# Altium footprint library P6母板4.1.PcbLib: 25 footprints (part 1 of 2)
Each footprint in its own frame and in the unit in brackets; x right, y up, seen from the top. Pads: shape width x height; smd on the part's side, far side on the other; paste and mask are expansions set on the pad; w line width, h text height; cw(c..) or ccw(c..) is an arc to the next point about the centre after c.
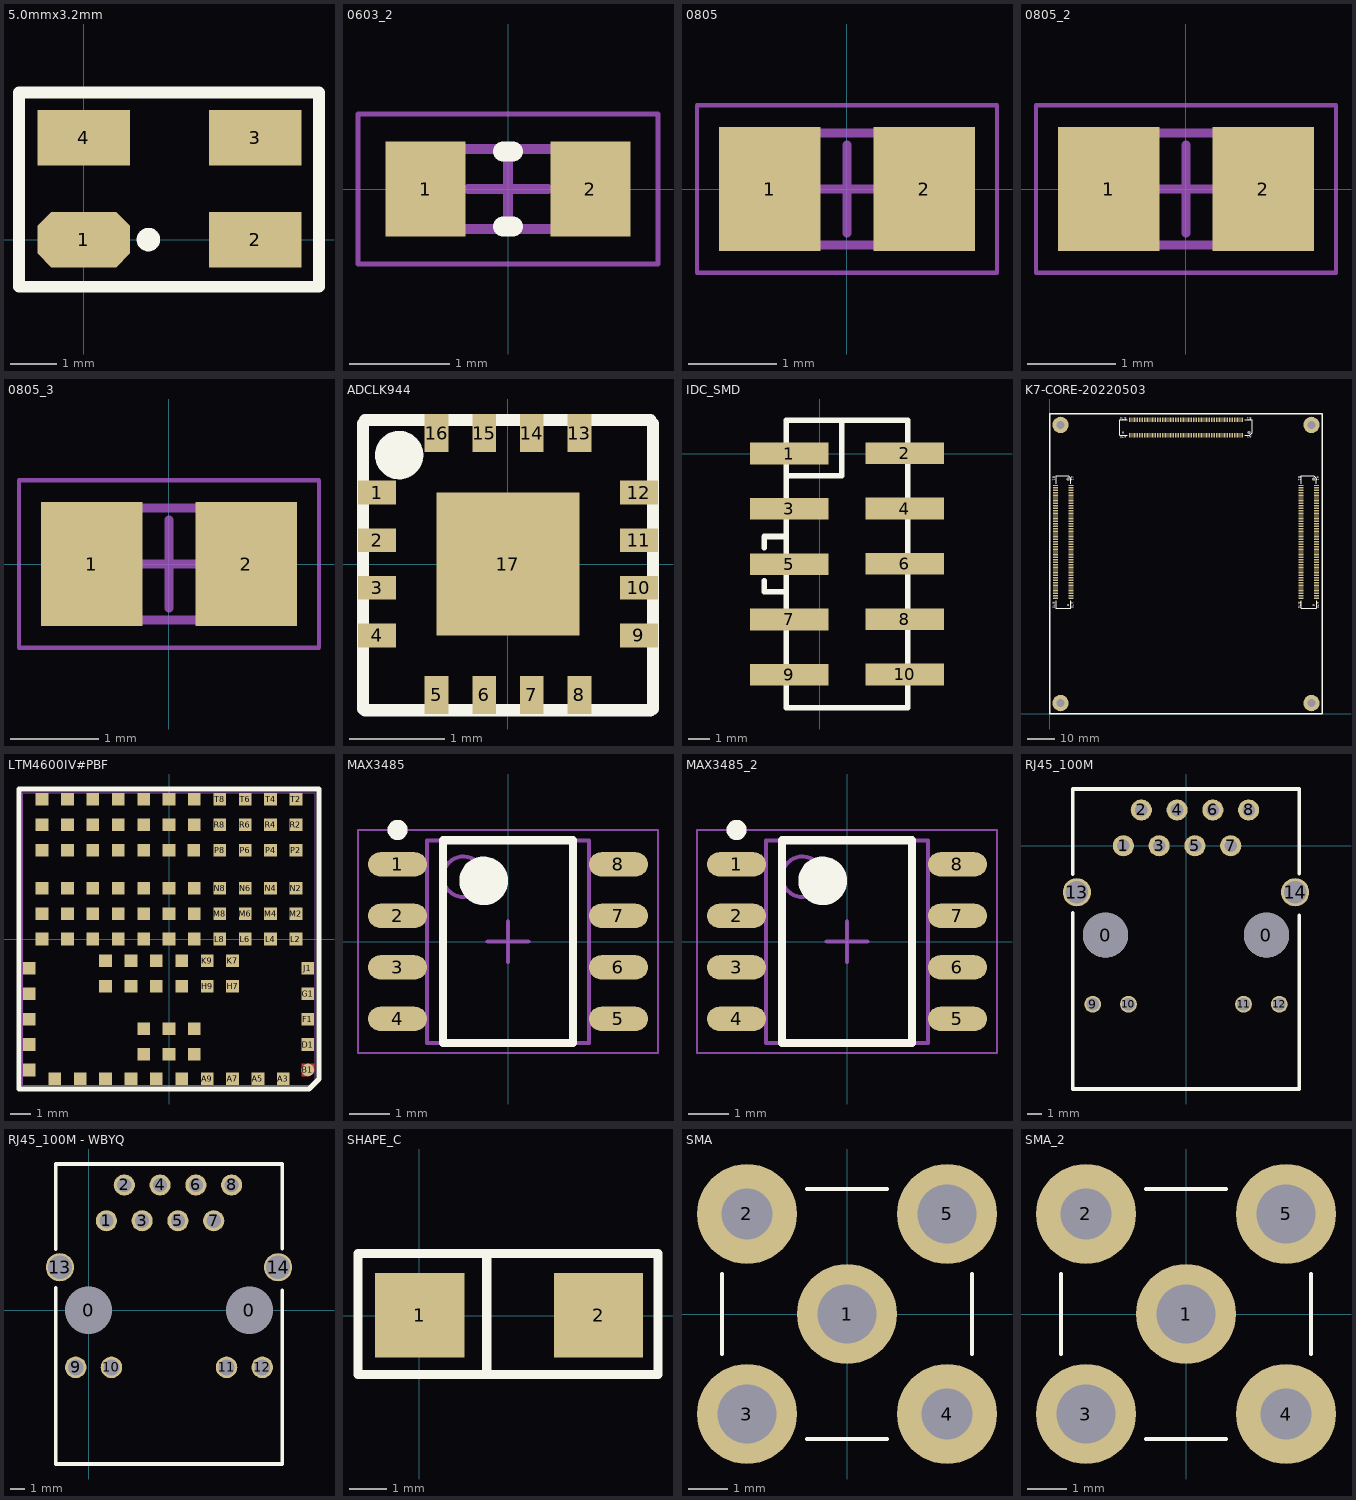
[diagram p0: the footprints below, top view; thin cyan lines are the x and y axes]

## 5.0mmx3.2mm [mm]
pads (4):
  oct 2x1.2 smd: 1(0,0)
  rect 2x1.2 smd: 2(3.7,0) 3(3.7,2.2) 4(0,2.2)
Top Overlay:
  circle w0.254: c1.397,0 r0.127
  lines w0.254: -1.397,-1.016 5.08,-1.016 5.08,3.175 -1.397,3.175 -1.397,-1.016

## 0603_2 [mm]
pads (2):
  rect 0.8x0.95 smd: 1(-0.825,0) 2(0.825,0)
Top Overlay:
  lines w0.2: -0.05,-0.375 0.05,-0.375 ; -0.05,0.375 0.05,0.375
Mechanical 13:
  lines w0.1: -0.8,-0.4 0.8,-0.4 0.8,0.4 -0.8,0.4 -0.8,-0.4
Mechanical 15:
  lines w0.05: -1.5,-0.75 1.5,-0.75 1.5,0.75 -1.5,0.75 -1.5,-0.75
  lines w0.1: -0.4,0 0.4,0 ; 0,-0.4 0,0.4
3D body: height 0.5, standoff 0, extent 0.5,-0.4 0.8,0.4
3D body: height 0.5, standoff 0, extent -0.8,-0.4 -0.5,0.4
3D body: height 0.5, standoff 0, extent -0.5,-0.4 0.5,0.4

## 0805 [mm] "Chip Capacitor, 2-Leads, Body 2.00x1.27mm, IPC Medium Density"
height 1.25
pads (2):
  rect 1.15x1.4 smd: 1(-0.875,0) 2(0.875,0)
Mechanical 13:
  lines w0.1: -1,-0.635 -1,0.635 1,0.635 1,-0.635 -1,-0.635
Mechanical 15:
  lines w0.05: -1.7,-0.95 -1.7,0.95 1.7,0.95 1.7,-0.95 -1.7,-0.95
  lines w0.1: -0.5,0 0.5,0 ; 0,-0.5 0,0.5
3D body: height 1.25, standoff 0, extent -0.55,-0.635 0.55,0.635
3D body: height 1.25, standoff 0, extent -1,-0.635 -0.55,0.635
3D body: height 1.25, standoff 0, extent 0.55,-0.635 1,0.635

## 0805_2 [mm]
pads (2):
  rect 1.15x1.4 smd: 1(-0.875,0) 2(0.875,0)
Mechanical 13:
  lines w0.1: -1,-0.635 1,-0.635 1,0.635 -1,0.635 -1,-0.635
Mechanical 15:
  lines w0.05: -1.7,-0.95 1.7,-0.95 1.7,0.95 -1.7,0.95 -1.7,-0.95
  lines w0.1: -0.5,0 0.5,0 ; 0,-0.5 0,0.5
3D body: height 1.25, standoff 0, extent 0.55,-0.635 1,0.635
3D body: height 1.25, standoff 0, extent -1,-0.635 -0.55,0.635
3D body: height 1.25, standoff 0, extent -0.55,-0.635 0.55,0.635

## 0805_3 [mm]
pads (2):
  rect 1.15x1.4 smd: 1(-0.875,0) 2(0.875,0)
Mechanical 13:
  lines w0.1: -1,-0.635 -1,0.635 1,0.635 1,-0.635 -1,-0.635
Mechanical 15:
  lines w0.05: -1.7,-0.95 -1.7,0.95 1.7,0.95 1.7,-0.95 -1.7,-0.95
  lines w0.1: -0.5,0 0.5,0 ; 0,-0.5 0,0.5
3D body: height 1.25, standoff 0, extent -0.55,-0.635 0.55,0.635
3D body: height 1.25, standoff 0, extent -1,-0.635 -0.55,0.635
3D body: height 1.25, standoff 0, extent 0.55,-0.635 1,0.635

## ADCLK944 [mm]
height 1.65
pads (17):
  rect 0.4x0.25 smd: 1(-1.375,0.75) 2(-1.375,0.25) 3(-1.375,-0.25) 4(-1.375,-0.75) 9(1.375,-0.75) 10(1.375,-0.25) 11(1.375,0.25) 12(1.375,0.75)
  rect 0.25x0.4 smd: 5(-0.75,-1.375) 6(-0.25,-1.375) 7(0.25,-1.375) 8(0.75,-1.375) 13(0.75,1.375) 14(0.25,1.375) 15(-0.25,1.375) 16(-0.75,1.375)
  rect 1.5x1.5 smd: 17(0,0)
Top Overlay:
  circle w0.254: c-1.143,1.143 r0.127
  lines w0.127: -1.524,-1.524 -1.524,1.476 ; -1.502,-1.536 1.498,-1.536 ; -1.502,1.512 1.498,1.512 ; 1.524,-1.524 1.524,1.476

## IDC_SMD [mm]
height 1.65
pads (10):
  rect 3.6x1 smd: 1(-1.397,0) 2(3.919,0.015) 3(-1.397,-2.54) 4(3.919,-2.525) 5(-1.397,-5.08) 6(3.919,-5.065) 7(-1.397,-7.62) 8(3.919,-7.605) 9(-1.397,-10.16) 10(3.919,-10.145)
Top Overlay:
  lines w0.254: -2.54,-5.842 -2.54,-6.35 -1.524,-6.35 ; -2.54,-4.318 -2.54,-3.81 -1.524,-3.81 ; -1.533,-1.016 1.016,-1.016 1.016,1.524 ; -1.533,-11.676 -1.533,1.532 4.055,1.532 4.055,-11.676 -1.533,-11.676

## K7-CORE-20220503 [mm]
height 1.65
pads (430):
  rect 0.35x1.7 smd mask+0.15: AS1(70.7,102.15) AS2(70.1,102.15) AS3(69.5,102.15) AS4(68.9,102.15) AS5(68.3,102.15) AS6(67.7,102.15) AS7(67.1,102.15) AS8(66.5,102.15) AS9(65.9,102.15) AS10(65.3,102.15) AS11(64.7,102.15) AS12(64.1,102.15) AS13(63.5,102.15) AS14(62.9,102.15) AS15(62.3,102.15) AS16(61.7,102.15) AS17(61.1,102.15) AS18(60.5,102.15) AS19(59.9,102.15) AS20(59.3,102.15) AS21(58.7,102.15) AS22(58.1,102.15) AS23(57.5,102.15) AS24(56.9,102.15) AS25(56.3,102.15) AS26(55.7,102.15) AS27(55.1,102.15) AS28(54.5,102.15) AS29(53.9,102.15) AS30(53.3,102.15) AS31(52.7,102.15) AS32(52.1,102.15) AS33(51.5,102.15) AS34(50.9,102.15) AS35(50.3,102.15) AS36(49.7,102.15) AS37(49.1,102.15) AS38(48.5,102.15) AS39(47.9,102.15) AS40(47.3,102.15) AS41(46.7,102.15) AS42(46.1,102.15) AS43(45.5,102.15) AS44(44.9,102.15) AS45(44.3,102.15) AS46(43.7,102.15) AS47(43.1,102.15) AS48(42.5,102.15) AS49(41.9,102.15) AS50(41.3,102.15) AS51(40.7,102.15) AS52(40.1,102.15) AS53(39.5,102.15) AS54(38.9,102.15) AS55(38.3,102.15) AS56(37.7,102.15) AS57(37.1,102.15) AS58(36.5,102.15) AS59(35.9,102.15) AS60(35.3,102.15) AS61(34.7,102.15) AS62(34.1,102.15) AS63(33.5,102.15) AS64(32.9,102.15) AS65(32.3,102.15) AS66(31.7,102.15) AS67(31.1,102.15) AS68(30.5,102.15) AS69(29.9,102.15) AS70(29.3,102.15) BS1(70.7,107.85) BS2(70.1,107.85) BS3(69.5,107.85) BS4(68.9,107.85) BS5(68.3,107.85) BS6(67.7,107.85) BS7(67.1,107.85) BS8(66.5,107.85) BS9(65.9,107.85) BS10(65.3,107.85) BS11(64.7,107.85) BS12(64.1,107.85) BS13(63.5,107.85) BS14(62.9,107.85) BS15(62.3,107.85) BS16(61.7,107.85) BS17(61.1,107.85) BS18(60.5,107.85) BS19(59.9,107.85) BS20(59.3,107.85) BS21(58.7,107.85) BS22(58.1,107.85) BS23(57.5,107.85) BS24(56.9,107.85) BS25(56.3,107.85) BS26(55.7,107.85) BS27(55.1,107.85) BS28(54.5,107.85) BS29(53.9,107.85) BS30(53.3,107.85) BS31(52.7,107.85) BS32(52.1,107.85) BS33(51.5,107.85) BS34(50.9,107.85) BS35(50.3,107.85) BS36(49.7,107.85) BS37(49.1,107.85) BS38(48.5,107.85) BS39(47.9,107.85) BS40(47.3,107.85) BS41(46.7,107.85) BS42(46.1,107.85) BS43(45.5,107.85) BS44(44.9,107.85) BS45(44.3,107.85) BS46(43.7,107.85) BS47(43.1,107.85) BS48(42.5,107.85) BS49(41.9,107.85) BS50(41.3,107.85) BS51(40.7,107.85) BS52(40.1,107.85) BS53(39.5,107.85) BS54(38.9,107.85) BS55(38.3,107.85) BS56(37.7,107.85) BS57(37.1,107.85) BS58(36.5,107.85) BS59(35.9,107.85) BS60(35.3,107.85) BS61(34.7,107.85) BS62(34.1,107.85) BS63(33.5,107.85) BS64(32.9,107.85) BS65(32.3,107.85) BS66(31.7,107.85) BS67(31.1,107.85) BS68(30.5,107.85) BS69(29.9,107.85) BS70(29.3,107.85)
  rect 1.7x0.35 smd mask+0.15: AY1(97.85,83.7) AY2(97.85,83.1) AY3(97.85,82.5) AY4(97.85,81.9) AY5(97.85,81.3) AY6(97.85,80.7) AY7(97.85,80.1) AY8(97.85,79.5) AY9(97.85,78.9) AY10(97.85,78.3) AY11(97.85,77.7) AY12(97.85,77.1) AY13(97.85,76.5) AY14(97.85,75.9) AY15(97.85,75.3) AY16(97.85,74.7) AY17(97.85,74.1) AY18(97.85,73.5) AY19(97.85,72.9) AY20(97.85,72.3) AY21(97.85,71.7) AY22(97.85,71.1) AY23(97.85,70.5) AY24(97.85,69.9) AY25(97.85,69.3) AY26(97.85,68.7) AY27(97.85,68.1) AY28(97.85,67.5) AY29(97.85,66.9) AY30(97.85,66.3) AY31(97.85,65.7) AY32(97.85,65.1) AY33(97.85,64.5) AY34(97.85,63.9) AY35(97.85,63.3) AY36(97.85,62.7) AY37(97.85,62.1) AY38(97.85,61.5) AY39(97.85,60.9) AY40(97.85,60.3) AY41(97.85,59.7) AY42(97.85,59.1) AY43(97.85,58.5) AY44(97.85,57.9) AY45(97.85,57.3) AY46(97.85,56.7) AY47(97.85,56.1) AY48(97.85,55.5) AY49(97.85,54.9) AY50(97.85,54.3) AY51(97.85,53.7) AY52(97.85,53.1) AY53(97.85,52.5) AY54(97.85,51.9) AY55(97.85,51.3) AY56(97.85,50.7) AY57(97.85,50.1) AY58(97.85,49.5) AY59(97.85,48.9) AY60(97.85,48.3) AY61(97.85,47.7) AY62(97.85,47.1) AY63(97.85,46.5) AY64(97.85,45.9) AY65(97.85,45.3) AY66(97.85,44.7) AY67(97.85,44.1) AY68(97.85,43.5) AY69(97.85,42.9) AY70(97.85,42.3) AZ1(7.85,83.7) AZ2(7.85,83.1) AZ3(7.85,82.5) AZ4(7.85,81.9) AZ5(7.85,81.3) AZ6(7.85,80.7) AZ7(7.85,80.1) AZ8(7.85,79.5) AZ9(7.85,78.9) AZ10(7.85,78.3) AZ11(7.85,77.7) AZ12(7.85,77.1) AZ13(7.85,76.5) AZ14(7.85,75.9) AZ15(7.85,75.3) AZ16(7.85,74.7) AZ17(7.85,74.1) AZ18(7.85,73.5) AZ19(7.85,72.9) AZ20(7.85,72.3) AZ21(7.85,71.7) AZ22(7.85,71.1) AZ23(7.85,70.5) AZ24(7.85,69.9) AZ25(7.85,69.3) AZ26(7.85,68.7) AZ27(7.85,68.1) AZ28(7.85,67.5) AZ29(7.85,66.9) AZ30(7.85,66.3) AZ31(7.85,65.7) AZ32(7.85,65.1) AZ33(7.85,64.5) AZ34(7.85,63.9) AZ35(7.85,63.3) AZ36(7.85,62.7) AZ37(7.85,62.1) AZ38(7.85,61.5) AZ39(7.85,60.9) AZ40(7.85,60.3) AZ41(7.85,59.7) AZ42(7.85,59.1) AZ43(7.85,58.5) AZ44(7.85,57.9) AZ45(7.85,57.3) AZ46(7.85,56.7) AZ47(7.85,56.1) AZ48(7.85,55.5) AZ49(7.85,54.9) AZ50(7.85,54.3) AZ51(7.85,53.7) AZ52(7.85,53.1) AZ53(7.85,52.5) AZ54(7.85,51.9) AZ55(7.85,51.3) AZ56(7.85,50.7) AZ57(7.85,50.1) AZ58(7.85,49.5) AZ59(7.85,48.9) AZ60(7.85,48.3) AZ61(7.85,47.7) AZ62(7.85,47.1) AZ63(7.85,46.5) AZ64(7.85,45.9) AZ65(7.85,45.3) AZ66(7.85,44.7) AZ67(7.85,44.1) AZ68(7.85,43.5) AZ69(7.85,42.9) AZ70(7.85,42.3) BY1(92.15,83.7) BY2(92.15,83.1) BY3(92.15,82.5) BY4(92.15,81.9) BY5(92.15,81.3) BY6(92.15,80.7) BY7(92.15,80.1) BY8(92.15,79.5) BY9(92.15,78.9) BY10(92.15,78.3) BY11(92.15,77.7) BY12(92.15,77.1) BY13(92.15,76.5) BY14(92.15,75.9) BY15(92.15,75.3) BY16(92.15,74.7) BY17(92.15,74.1) BY18(92.15,73.5) BY19(92.15,72.9) BY20(92.15,72.3) BY21(92.15,71.7) BY22(92.15,71.1) BY23(92.15,70.5) BY24(92.15,69.9) BY25(92.15,69.3) BY26(92.15,68.7) BY27(92.15,68.1) BY28(92.15,67.5) BY29(92.15,66.9) BY30(92.15,66.3) BY31(92.15,65.7) BY32(92.15,65.1) BY33(92.15,64.5) BY34(92.15,63.9) BY35(92.15,63.3) BY36(92.15,62.7) BY37(92.15,62.1) BY38(92.15,61.5) BY39(92.15,60.9) BY40(92.15,60.3) BY41(92.15,59.7) BY42(92.15,59.1) BY43(92.15,58.5) BY44(92.15,57.9) BY45(92.15,57.3) BY46(92.15,56.7) BY47(92.15,56.1) BY48(92.15,55.5) BY49(92.15,54.9) BY50(92.15,54.3) BY51(92.15,53.7) BY52(92.15,53.1) BY53(92.15,52.5) BY54(92.15,51.9) BY55(92.15,51.3) BY56(92.15,50.7) BY57(92.15,50.1) BY58(92.15,49.5) BY59(92.15,48.9) BY60(92.15,48.3) BY61(92.15,47.7) BY62(92.15,47.1) BY63(92.15,46.5) BY64(92.15,45.9) BY65(92.15,45.3) BY66(92.15,44.7) BY67(92.15,44.1) BY68(92.15,43.5) BY69(92.15,42.9) BY70(92.15,42.3) BZ1(2.15,83.7) BZ2(2.15,83.1) BZ3(2.15,82.5) BZ4(2.15,81.9) BZ5(2.15,81.3) BZ6(2.15,80.7) BZ7(2.15,80.1) BZ8(2.15,79.5) BZ9(2.15,78.9) BZ10(2.15,78.3) BZ11(2.15,77.7) BZ12(2.15,77.1) BZ13(2.15,76.5) BZ14(2.15,75.9) BZ15(2.15,75.3) BZ16(2.15,74.7) BZ17(2.15,74.1) BZ18(2.15,73.5) BZ19(2.15,72.9) BZ20(2.15,72.3) BZ21(2.15,71.7) BZ22(2.15,71.1) BZ23(2.15,70.5) BZ24(2.15,69.9) BZ25(2.15,69.3) BZ26(2.15,68.7) BZ27(2.15,68.1) BZ28(2.15,67.5) BZ29(2.15,66.9) BZ30(2.15,66.3) BZ31(2.15,65.7) BZ32(2.15,65.1) BZ33(2.15,64.5) BZ34(2.15,63.9) BZ35(2.15,63.3) BZ36(2.15,62.7) BZ37(2.15,62.1) BZ38(2.15,61.5) BZ39(2.15,60.9) BZ40(2.15,60.3) BZ41(2.15,59.7) BZ42(2.15,59.1) BZ43(2.15,58.5) BZ44(2.15,57.9) BZ45(2.15,57.3) BZ46(2.15,56.7) BZ47(2.15,56.1) BZ48(2.15,55.5) BZ49(2.15,54.9) BZ50(2.15,54.3) BZ51(2.15,53.7) BZ52(2.15,53.1) BZ53(2.15,52.5) BZ54(2.15,51.9) BZ55(2.15,51.3) BZ56(2.15,50.7) BZ57(2.15,50.1) BZ58(2.15,49.5) BZ59(2.15,48.9) BZ60(2.15,48.3) BZ61(2.15,47.7) BZ62(2.15,47.1) BZ63(2.15,46.5) BZ64(2.15,45.9) BZ65(2.15,45.3) BZ66(2.15,44.7) BZ67(2.15,44.1) BZ68(2.15,43.5) BZ69(2.15,42.9) BZ70(2.15,42.3)
  round 6 hole 3: ""(4,4) ""(4,106) ""(96,4) ""(96,106)
  round 0.7 hole 0.7: ""(6.8,39.9) ""(26.9,103.2) ""(96.8,39.9)
  round 1.1 hole 1.1: ""(6.8,86.1) ""(73.1,103.2) ""(96.8,86.1)
Top Overlay:
  lines w0.254: 2.2,41.5 2.2,38.7 7.8,38.7 7.8,41.5 ; 2.2,84.5 2.2,87.3 6.9,87.3 7.8,86.4 7.8,84.5 ; 28.5,102.2 25.7,102.2 25.7,107.8 28.5,107.8 ; 71.5,102.2 73.4,102.2 74.3,103.1 74.3,107.8 71.5,107.8 ; 92.2,41.5 92.2,38.7 97.8,38.7 97.8,41.5 ; 92.2,84.5 92.2,87.3 96.9,87.3 97.8,86.4 97.8,84.5
  lines w0.5: 0,0 100,0 100,110 0,110 0,0
  text "A70" at 28.222,102.048 h0.89
  text "B70" at 28.222,108.841 h0.89
  text "B1" at 74.148,108.841 h0.89
  text "A1" at 74.148,102.048 h0.89
  text "A70" at 97.952,41.222 h0.89
  text "B70" at 91.159,41.222 h0.89
  text "B1" at 91.159,87.148 h0.89
  text "A1" at 97.952,87.148 h0.89
  text "A70" at 7.952,41.222 h0.89
  text "B70" at 1.159,41.222 h0.89
  text "B1" at 1.159,87.148 h0.89
  text "A1" at 7.952,87.148 h0.89

## LTM4600IV#PBF [mm]
pads (104):
  rect 0.635x0.635 smd: A3(5.716,-6.989) A5(4.446,-6.989) A7(3.176,-6.989) A9(1.906,-6.989) A11(0.636,-6.989) A13(-0.634,-6.989) A15(-1.904,-6.989) A17(-3.174,-6.989) A19(-4.444,-6.989) A21(-5.714,-6.989) B23(-6.987,-6.548) C10(1.27,-5.765) C12(0,-5.765) C14(-1.27,-5.765) D1(6.942,-5.278) D23(-6.987,-5.278) E10(1.27,-4.495) E12(0,-4.495) E14(-1.27,-4.495) F1(6.942,-4.008) F23(-6.987,-4.008) G1(6.942,-2.738) G23(-6.987,-2.738) H7(3.176,-2.36) H9(1.906,-2.36) H11(0.636,-2.36) H13(-0.634,-2.36) H15(-1.904,-2.36) H17(-3.174,-2.36) J1(6.942,-1.468) J23(-6.987,-1.468) K7(3.176,-1.09) K9(1.906,-1.09) K11(0.636,-1.09) K13(-0.634,-1.09) K15(-1.904,-1.09) K17(-3.174,-1.09) L2(6.35,0) L4(5.08,0) L6(3.81,0) L8(2.54,0) L10(1.27,0) L12(0,0) L14(-1.27,0) L16(-2.54,0) L18(-3.81,0) L20(-5.08,0) L22(-6.35,0) M2(6.35,1.27) M4(5.08,1.27) M6(3.81,1.27) M8(2.54,1.27) M10(1.27,1.27) M12(0,1.27) M14(-1.27,1.27) M16(-2.54,1.27) M18(-3.81,1.27) M20(-5.08,1.27) M22(-6.35,1.27) N2(6.35,2.54) N4(5.08,2.54) N6(3.81,2.54) N8(2.54,2.54) N10(1.27,2.54) N12(0,2.54) N14(-1.27,2.54) N16(-2.54,2.54) N18(-3.81,2.54) N20(-5.08,2.54) N22(-6.35,2.54) P2(6.35,4.445) P4(5.08,4.445) P6(3.81,4.445) P8(2.54,4.445) P10(1.24,4.445) P12(0,4.445) P14(-1.27,4.445) P16(-2.54,4.445) P18(-3.81,4.445) P20(-5.08,4.445) P22(-6.35,4.445) R2(6.35,5.715) R4(5.08,5.715) R6(3.81,5.715) R8(2.54,5.715) R10(1.27,5.715) R12(0,5.715) R14(-1.27,5.715) R16(-2.54,5.715) R18(-3.81,5.715) R20(-5.08,5.715) R22(-6.35,5.715) T2(6.35,6.985) T4(5.08,6.985) T6(3.81,6.985) T8(2.54,6.985) T10(1.27,6.985) T12(0,6.985) T14(-1.27,6.985) T16(-2.54,6.985) T18(-3.81,6.985) T20(-5.08,6.985) T22(-6.35,6.985)
  round 0.635 smd: B1(6.942,-6.548)
Top Layer:
  region: 6.625,-6.23 7.26,-6.23 7.26,-6.615 7.01,-6.865 6.625,-6.865
Top Overlay:
  lines w0.254: -7.5,-7.5 -7.5,7.5 7.5,7.5 7.5,-7 7,-7.5 -7.5,-7.5
Mechanical 17:
  lines w0.005: -7.31,-7.31 -7.31,7.31 7.31,7.31 7.31,-7.31 -7.31,-7.31

## MAX3485 [mm] "SOP, 8-Leads, Body 4.90x3.90mm, Pitch 1.27mm, IPC Medium Density"
height 1.75
pads (8):
  oval 1.45x0.6 smd: 1(-2.725,1.905) 2(-2.725,0.635) 3(-2.725,-0.635) 4(-2.725,-1.905) 5(2.725,-1.905) 6(2.725,-0.635) 7(2.725,0.635) 8(2.725,1.905)
Top Overlay:
  circle w0.25: c-2.725,2.755 r0.125
  circle w0.6: c-0.6,1.5 r0.3
  lines w0.2: -1.6,-2.5 -1.6,2.5 1.6,2.5 1.6,-2.5 -1.6,-2.5
Mechanical 13:
  circle w0.1: c-1.1,1.6 r0.5
  lines w0.1: -2,-2.5 -2,2.5 2,2.5 2,-2.5 -2,-2.5
Mechanical 15:
  lines w0.05: -3.7,-2.75 -3.7,2.75 3.7,2.75 3.7,-2.75 -3.7,-2.75
  lines w0.1: -0.5,0 0.5,0 ; 0,-0.5 0,0.5
3D body: height 1.75, standoff 0.1, extent -2,-2.5 2,2.5

## MAX3485_2 [mm]
pads (8):
  oval 1.45x0.6 smd: 1(-2.725,1.905) 2(-2.725,0.635) 3(-2.725,-0.635) 4(-2.725,-1.905) 5(2.725,-1.905) 6(2.725,-0.635) 7(2.725,0.635) 8(2.725,1.905)
Top Overlay:
  circle w0.6: c-0.6,1.5 r0.3
  circle w0.25: c-2.725,2.755 r0.125
  lines w0.2: -1.6,-2.5 1.6,-2.5 1.6,2.5 -1.6,2.5 -1.6,-2.5
Mechanical 13:
  circle w0.1: c-1.1,1.6 r0.5
  lines w0.1: -2,-2.5 2,-2.5 2,2.5 -2,2.5 -2,-2.5
Mechanical 15:
  lines w0.05: -3.7,-2.75 3.7,-2.75 3.7,2.75 -3.7,2.75 -3.7,-2.75
  lines w0.1: -0.5,0 0.5,0 ; 0,-0.5 0,0.5
3D body: height 1.75, standoff 0.1, extent -2,-2.5 2,2.5

## RJ45_100M [mm]
pads (16):
  round 3.2 hole 3.2: 0(-5.715,-6.35) 0(5.715,-6.35)
  round 1.5 hole 0.9: 1(-4.445,0) 2(-3.175,2.54) 3(-1.905,0) 4(-0.635,2.54) 5(0.635,0) 6(1.905,2.54) 7(3.175,0) 8(4.445,2.54)
  round 1.2 hole 0.9: 9(-6.625,-11.25) 10(-4.085,-11.25) 11(4.085,-11.25) 12(6.625,-11.25)
  round 2 hole 1.6: 13(-7.745,-3.3) 14(7.745,-3.3)
Top Overlay:
  lines w0.254: -8.052,-17.27 8.05,-17.27 8.05,-4.953 ; -8.05,-17.27 -8.05,-4.775 ; -8.05,-2.032 -8.05,4.03 ; -8.026,4.03 8.05,4.03 8.05,-1.981

## RJ45_100M - WBYQ [mm]
pads (16):
  round 3.3 hole 3.35: 0(0,0) 0(11.43,0)
  round 1.5 hole 1: 1(1.27,6.35) 2(2.54,8.89) 3(3.81,6.35) 4(5.08,8.89) 5(6.35,6.35) 6(7.62,8.89) 7(8.89,6.35) 8(10.16,8.89)
  round 1.524 hole 1.12: 9(-0.91,-4.06) 10(1.63,-4.06) 11(9.8,-4.06) 12(12.34,-4.06)
  round 2 hole 1.7: 13(-2.03,3.05) 14(13.46,3.05)
Top Overlay:
  lines w0.254: -2.337,-10.92 13.765,-10.92 13.765,1.397 ; -2.335,-10.92 -2.335,1.575 ; -2.335,4.318 -2.335,10.38 ; -2.311,10.38 13.765,10.38 13.765,4.369

## SHAPE_C [mil]
height 64.96
pads (2):
  rect 95x90 smd: 1(0.76,0.43) 2(190.76,0.43)
Top Overlay:
  lines w10: -65,-62.57 254,-62.57 254,66 -65,66 -65,-60 ; 72,-62.41 72,60

## SMA [mm]
height 1.65
pads (5):
  round 2.54 hole 1.5: 1(0,0) 3(-2.54,-2.54) 5(2.54,2.54)
  round 2.54 hole 1.3: 2(-2.54,2.54) 4(2.54,-2.54)
Top Overlay:
  lines w0.1: -3.175,-1.016 -3.175,1.016 ; -1.016,-3.175 1.016,-3.175 ; -1.016,3.175 1.016,3.175 ; 3.175,-1.016 3.175,1.016

## SMA_2 [mm]
pads (5):
  round 2.54 hole 1.5: 1(0,0) 3(-2.54,-2.54) 5(2.54,2.54)
  round 2.54 hole 1.3: 2(-2.54,2.54) 4(2.54,-2.54)
Top Overlay:
  lines w0.1: -3.175,-1.016 -3.175,1.016 ; -1.016,-3.175 1.016,-3.175 ; -1.016,3.175 1.016,3.175 ; 3.175,-1.016 3.175,1.016